# EAGLE library part MKDS-07 (library con-phoenix-500)
MKDSN COMBICON SERIES
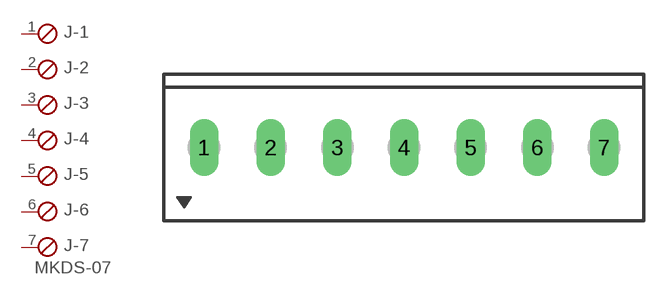
[diagram p13: symbol with the pads of MKDS-07; footprint MKDS-07]

Designator prefix J; gates -1=SKB -2=SKB -3=SKB -4=SKB -5=SKB -6=SKB -7=SKBV

## MKDS-07  [MKDS-07]
1  -1:1  pas
2  -2:1  pas
3  -3:1  pas
4  -4:1  pas
5  -5:1  pas
6  -6:1  pas
7  -7:1  pas

## Footprint MKDS-07 (pad centres in mm)
5.00 mm
drill 1.422 long: 1 -14.96,0; 2 -9.96,0; 3 -4.96,0; 4 0.04,0; 5 5.04,0; 6 10.04,0; 7 15.04,0